# Altium footprint library SMD Fuse.PcbLib: 2 footprints
Each footprint in its own frame and in the unit in brackets; x right, y up, seen from the top. Pads: shape width x height; smd on the part's side, far side on the other; paste and mask are expansions set on the pad; w line width, h text height; cw(c..) or ccw(c..) is an arc to the next point about the centre after c.
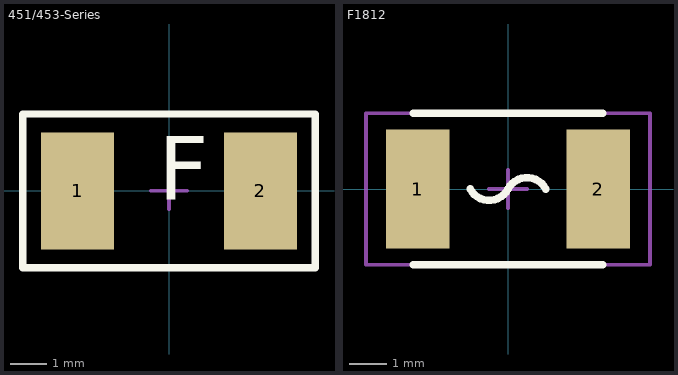
[diagram p0: the footprints below, top view; thin cyan lines are the x and y axes]

## 451/453-Series [mm] "Littelfuse"
height 2.69
pads (2):
  rect 2x3.2 smd: 1(-2.5,0) 2(2.5,0)
Top Overlay:
  lines w0.2: -4,-2.1 -4,2.1 4,2.1 4,-2.1 -4,-2.1
  text "F" at -0.3,-0.8 h3
Mechanical 7:
  lines w0.05: -4,-2.1 4,-2.1 4,2.1 -4,2.1 -4,-2.1
  text ".Designator" at -2.25,-0.5 h1.5
Mechanical 15:
  lines w0.1: -0.5,0 0.5,0 ; 0,-0.5 0,0.5 ; -4,-2.1 4,-2.1 4,2.1 -4,2.1 -4,-2.1
3D body "User Library-FUSE_NANO2.step": height 2.71, standoff 0.01, extent -3.05,-1.35 3.05,1.35

## F1812 [mm]
height 1.5
pads (2):
  rect 1.68x3.15 smd: 1(-2.39,0) 2(2.39,0)
Top Overlay:
  lines w0.2: -2.5,-2 2.5,-2 ; -2.5,2 2.5,2 ; -1,0 ccw(c-0.5,0.267) 0,0 cw(c0.5,-0.267) 1,0
Mechanical 7:
  lines w0.05: -3.75,-2 3.75,-2 3.75,2 -3.75,2 -3.75,-2
  text ".Designator" at -1.5,-0.5 h1.5
Mechanical 15:
  lines w0.1: -0.5,0 0.5,0 ; 0,-0.5 0,0.5 ; -3.75,-2 3.75,-2 3.75,2 -3.75,2 -3.75,-2
3D body "Fuse 1812.step": height 1.04, standoff 0.01, extent -2.365,-1.74 2.37,1.74